# Altium integrated library DRA818.IntLib: 1 symbol
Pins are listed as number, name and electrical type; pins without a type are passive.

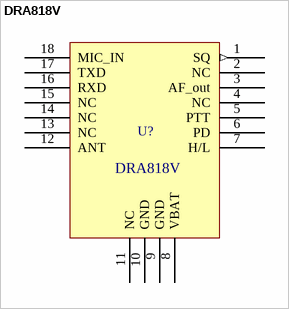
[diagram p0: symbol DRA818V]

## DRA818V
designator U?
footprint DRA818_breakout
pins: 1 SQ (out) "Squelch output", 2 NC, 3 AF_out "AF output", 4 NC, 5 PTT "Low -> TX; High -> RX", 6 PD "Power Down", 7 H/L "L -> 0.5W; float -> 1W", 8 VBAT, 9 GND, 10 GND, 11 NC, 12 ANT, 13 NC, 14 NC, 15 NC, 16 RXD, 17 TXD, 18 MIC_IN